# EAGLE library part MAX30001GCWV+ (library MAX30001GCWV+)
MAXIM INTEGRATED / ANALOG DEVICES - MAX30001GCWV+ - 1 LEAD ECG & BIOZ AFE Source: Datasheet <https://datasheets.maximintegrated.com/en/ds/MAX30001G.pdf>
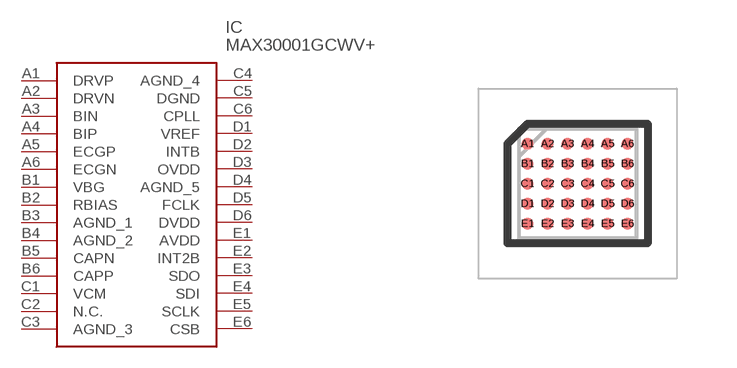
[diagram p0: symbol with the pads of BGA30C50P6X5_293X274X69; footprint BGA30C50P6X5_293X274X69]

Designator prefix IC

## MAX30001GCWV+ (Description: MAXIM INTEGRATED / ANALOG DEVICES - MAX30001GCWV+ - 1 LEAD ECG & BIOZ AFE; Height: 0.69mm; Manufacturer_Name: Analog Devices; Manufacturer_Part_Number: MAX30001GCWV+; Mouser_Part_Number: 700-MAX30001GCWV+; Mouser_Price-Stock: https://www.mouser.co.uk/ProductDetail/Analog-Devices-Maxim-Integrated/MAX30001GCWV%2b?qs=Rp5uXu7WBW%2FLfomdQH9F5g%3D%3D)  [BGA30C50P6X5_293X274X69]
A1  DRVP
A2  DRVN
A3  BIN
A4  BIP
A5  ECGP
A6  ECGN
B1  VBG
B2  RBIAS
B3  AGND_1
B4  AGND_2
B5  CAPN
B6  CAPP
C1  VCM
C2  N.C.  nc
C3  AGND_3
C4  AGND_4
C5  DGND
C6  CPLL
D1  VREF
D2  INTB
D3  OVDD
D4  AGND_5
D5  FCLK
D6  DVDD
E1  AVDD
E2  INT2B
E3  SDO
E4  SDI
E5  SCLK
E6  CSB

## Footprint BGA30C50P6X5_293X274X69 (pad centres in mm)
W302L2+1
smd 0.298 x 0.298: A1 -1.25,1; A2 -0.75,1; A3 -0.25,1; A4 0.25,1; A5 0.75,1; A6 1.25,1; B1 -1.25,0.5; B2 -0.75,0.5; B3 -0.25,0.5; B4 0.25,0.5; B5 0.75,0.5; B6 1.25,0.5; C1 -1.25,0; C2 -0.75,0; C3 -0.25,0; C4 0.25,0; C5 0.75,0; C6 1.25,0; D1 -1.25,-0.5; D2 -0.75,-0.5; D3 -0.25,-0.5; D4 0.25,-0.5; D5 0.75,-0.5; D6 1.25,-0.5; E1 -1.25,-1; E2 -0.75,-1; E3 -0.25,-1; E4 0.25,-1; E5 0.75,-1; E6 1.25,-1